# Altium footprint library DF782.PcbLib: 1 footprints
Each footprint in its own frame and in the unit in brackets; x right, y up, seen from the top. Pads: shape width x height; smd on the part's side, far side on the other; paste and mask are expansions set on the pad; w line width, h text height; cw(c..) or ccw(c..) is an arc to the next point about the centre after c.
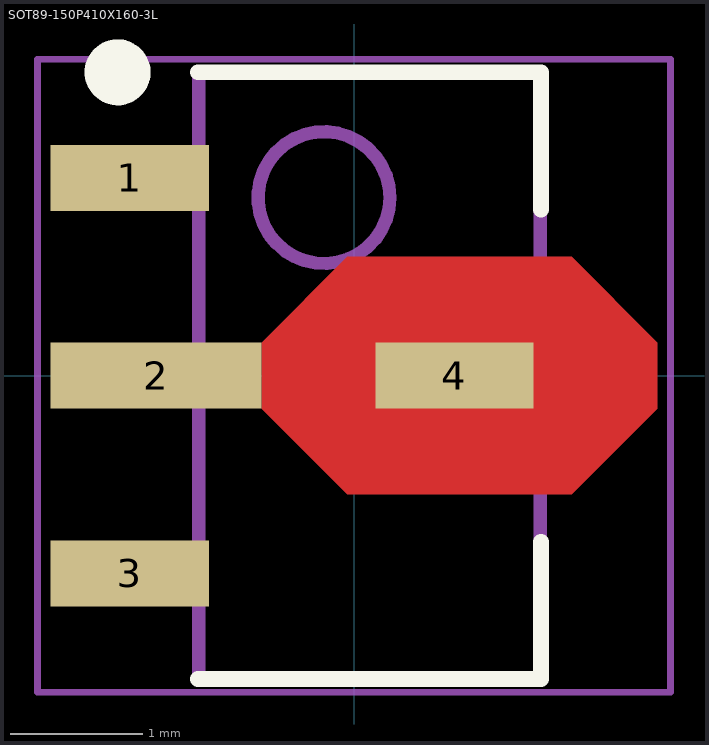
[diagram p0: the footprint, top view; thin cyan lines are the x and y axes]

## SOT89-150P410X160-3L [mm] "SOT89, 3-Leads, Body 4,49x2,44mm, Pitch 1,50mm, Lead Span 4,1mm, IPC High Density"
height 1.6
pads (4):
  rect 1.2x0.5 smd: 1(-1.7,1.5) 3(-1.7,-1.5)
  rect 1.6x0.5 smd: 2(-1.5,0)
  rect 1.2x0.5 smd mask+0: 4(0.762,0)
Top Layer:
  region: -0.7,0.25 -0.05,0.9 1.65,0.9 2.3,0.25 2.3,-0.25 1.65,-0.9 -0.05,-0.9 -0.7,-0.25
Top Overlay:
  circle w0.25: c-1.793,2.3 r0.125
  lines w0.12: -1.182,-2.3 1.418,-2.3 1.418,-1.26 ; -1.182,2.3 1.418,2.3 1.418,1.26
Top Assembly:
  circle w0.1: c-0.228,1.35 r0.5
  lines w0.1: -1.178,-2.3 1.412,-2.3 1.412,2.3 -1.178,2.3 -1.178,-2.3
Top Courtyard:
  lines w0.05: -2.4,-2.4 2.4,-2.4 2.4,2.4 -2.4,2.4 -2.4,-2.4
  lines w0.1: -0.383,0 0.617,0 ; 0.118,-0.5 0.118,0.5
3D body "SOT89-150P410X160-3L.step": height 1.6, standoff 0, extent -2.195,-2.3 1.855,2.3